# Altium schematic symbol library WL-TDRB.SchLib: 2 symbols
Pins are listed as number, name and electrical type; pins without a type are passive.

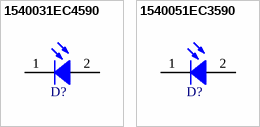
[diagram p0: symbols 1540031EC4590 to 1540051EC3590]

## 1540031EC4590
designator D?, comment 750-1100nm, 30uA, 45°  (value not drawn)
WL-TDRB THT Photodiode Round Black, 750-1100nm, 30uA, 45°; Manufacturer Part Number: 1540031EC4590; Manufacturer: Wurth Elektronik; Dark Current Max: 10nA; Range of Spectral Bandwidth Min: 750nm; Range of Spectral Bandwidth Max: 1100nm; Wavelength of Peak Sensitivity: 940nm; Category: Photodiodes; Match Code: WL-TDRB; ComponentLink1Description: Website Link; ComponentLink1URL: https://www.we-online.com/redexpert/article/1540031EC4590?ad; ComponentLink2Description: Datasheet Link; ComponentLink2URL: https://www.we-online.com/redexpert/spec/1540031EC4590?ad; Mount: Through Hole; Operating Temperature Max: 85°C; Operating Temperature Min: -40°C; Packaging: Bulk; Height: 5.3mm; Diameter: 3.85mm; Photo Current: 30uA; Viewing Angle: 45°
footprint WL-TDRB_D3.85H5.3
pins: 1 K, 2 A

## 1540051EC3590
designator D?, comment 700-1100nm, 31uA, 35°  (value not drawn)
WL-TDRB THT Photodiode Round Black, 700-1100nm, 31uA, 35°; Manufacturer Part Number: 1540051EC3590; Manufacturer: Wurth Elektronik; Dark Current Max: 30nA; Range of Spectral Bandwidth Min: 700nm; Range of Spectral Bandwidth Max: 1100nm; Wavelength of Peak Sensitivity: 940nm; Category: Photodiodes; Match Code: WL-TDRB; ComponentLink1Description: Website Link; ComponentLink1URL: https://www.we-online.com/redexpert/article/1540051EC3590?ad; ComponentLink2Description: Datasheet Link; ComponentLink2URL: https://www.we-online.com/redexpert/spec/1540051EC3590?ad; Mount: Through Hole; Operating Temperature Max: 85°C; Operating Temperature Min: -40°C; Packaging: Bulk; Height: 8.7mm; Diameter: 5.8mm; Photo Current: 31uA; Viewing Angle: 35°
footprint WL-TDRB_D5.8H8.7
pins: 1 K, 2 A